# EAGLE library part EPM7128SLC84-10 (library EPM7128SLC84-10)
IC PLD EEPROM Check availability <https://pricing.snapeda.com/parts/EPM7128SLC84-10/Intel/view-part?ref=eda>
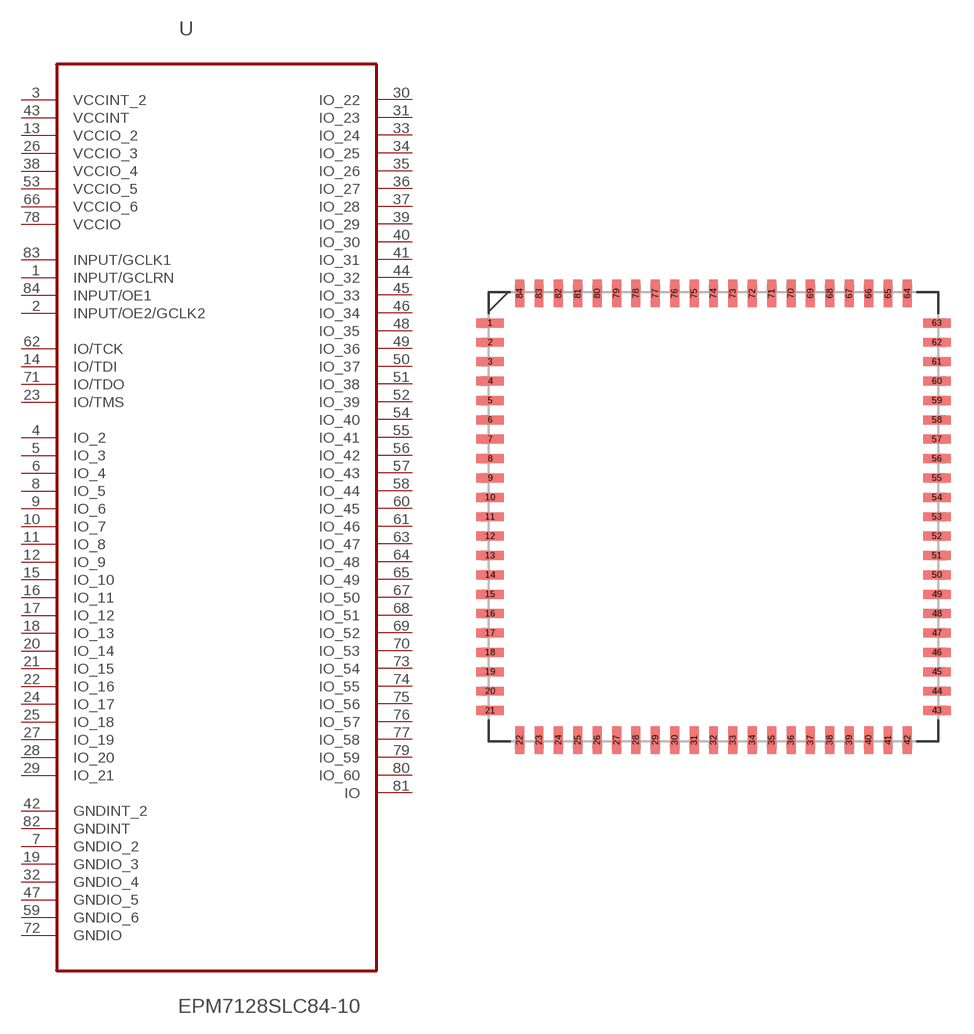
[diagram p0: symbol with the pads of PLCC127P3022X3022X457-84N; footprint PLCC127P3022X3022X457-84N]

Designator prefix -

## EPM7128SLC84-10 (Availability: In Stock; Description: CPLD MAX 7000S Family 2.5K Gates 128 Macro Cells 100MHz 5V 84-Pin PLCC CPLD MAX 7000S Family 2.5K Gates 128 Macro Cel...; MF: Intel; MP: EPM7128SLC84-10; Package: PLCC-84 Altera; Price: None)  [PLCC127P3022X3022X457-84N]
1  INPUT/GCLRN  in
2  INPUT/OE2/GCLK2  in
3  VCCINT_2  pwr
4  IO_2
5  IO_3
6  IO_4
7  GNDIO_2  pas
8  IO_5
9  IO_6
10  IO_7
11  IO_8
12  IO_9
13  VCCIO_2  pwr
14  IO/TDI
15  IO_10
16  IO_11
17  IO_12
18  IO_13
19  GNDIO_3  pas
20  IO_14
21  IO_15
22  IO_16
23  IO/TMS
24  IO_17
25  IO_18
26  VCCIO_3  pwr
27  IO_19
28  IO_20
29  IO_21
30  IO_22
31  IO_23
32  GNDIO_4  pas
33  IO_24
34  IO_25
35  IO_26
36  IO_27
37  IO_28
38  VCCIO_4  pwr
39  IO_29
40  IO_30
41  IO_31
42  GNDINT_2  pas
43  VCCINT  pwr
44  IO_32
45  IO_33
46  IO_34
47  GNDIO_5  pas
48  IO_35
49  IO_36
50  IO_37
51  IO_38
52  IO_39
53  VCCIO_5  pwr
54  IO_40
55  IO_41
56  IO_42
57  IO_43
58  IO_44
59  GNDIO_6  pas
60  IO_45
61  IO_46
62  IO/TCK
63  IO_47
64  IO_48
65  IO_49
66  VCCIO_6  pwr
67  IO_50
68  IO_51
69  IO_52
70  IO_53
71  IO/TDO
72  GNDIO  pas
73  IO_54
74  IO_55
75  IO_56
76  IO_57
77  IO_58
78  VCCIO  pwr
79  IO_59
80  IO_60
81  IO
82  GNDINT  pas
83  INPUT/GCLK1  in
84  INPUT/OE1  in

## Footprint PLCC127P3022X3022X457-84N (pad centres in mm)
smd 1.803 x 0.584: 1 -14.63,12.7; 2 -14.63,11.43; 3 -14.63,10.16; 4 -14.63,8.89; 5 -14.63,7.62; 6 -14.63,6.35; 7 -14.63,5.08; 8 -14.63,3.81; 9 -14.63,2.54; 10 -14.63,1.27; 11 -14.63,0; 12 -14.63,-1.27; 13 -14.63,-2.54; 14 -14.63,-3.81; 15 -14.63,-5.08; 16 -14.63,-6.35; 17 -14.63,-7.62; 18 -14.63,-8.89; 19 -14.63,-10.16; 20 -14.63,-11.43; 21 -14.63,-12.7; 43 14.63,-12.7; 44 14.63,-11.43; 45 14.63,-10.16; 46 14.63,-8.89; 47 14.63,-7.62; 48 14.63,-6.35; 49 14.63,-5.08; 50 14.63,-3.81; 51 14.63,-2.54; 52 14.63,-1.27; 53 14.63,0; 54 14.63,1.27; 55 14.63,2.54; 56 14.63,3.81; 57 14.63,5.08; 58 14.63,6.35; 59 14.63,7.62; 60 14.63,8.89; 61 14.63,10.16; 62 14.63,11.43; 63 14.63,12.7
smd 0.584 x 1.803: 22 -12.7,-14.63; 23 -11.43,-14.63; 24 -10.16,-14.63; 25 -8.89,-14.63; 26 -7.62,-14.63; 27 -6.35,-14.63; 28 -5.08,-14.63; 29 -3.81,-14.63; 30 -2.54,-14.63; 31 -1.27,-14.63; 32 0,-14.63; 33 1.27,-14.63; 34 2.54,-14.63; 35 3.81,-14.63; 36 5.08,-14.63; 37 6.35,-14.63; 38 7.62,-14.63; 39 8.89,-14.63; 40 10.16,-14.63; 41 11.43,-14.63; 42 12.7,-14.63; 64 12.7,14.63; 65 11.43,14.63; 66 10.16,14.63; 67 8.89,14.63; 68 7.62,14.63; 69 6.35,14.63; 70 5.08,14.63; 71 3.81,14.63; 72 2.54,14.63; 73 1.27,14.63; 74 0,14.63; 75 -1.27,14.63; 76 -2.54,14.63; 77 -3.81,14.63; 78 -5.08,14.63; 79 -6.35,14.63; 80 -7.62,14.63; 81 -8.89,14.63; 82 -10.16,14.63; 83 -11.43,14.63; 84 -12.7,14.63